# Altium footprint library eaton_elv10-xx-2p.PcbLib: 3 footprints
Each footprint in its own frame and in the unit in brackets; x right, y up, seen from the top. Pads: shape width x height; smd on the part's side, far side on the other; paste and mask are expansions set on the pad; w line width, h text height; cw(c..) or ccw(c..) is an arc to the next point about the centre after c.
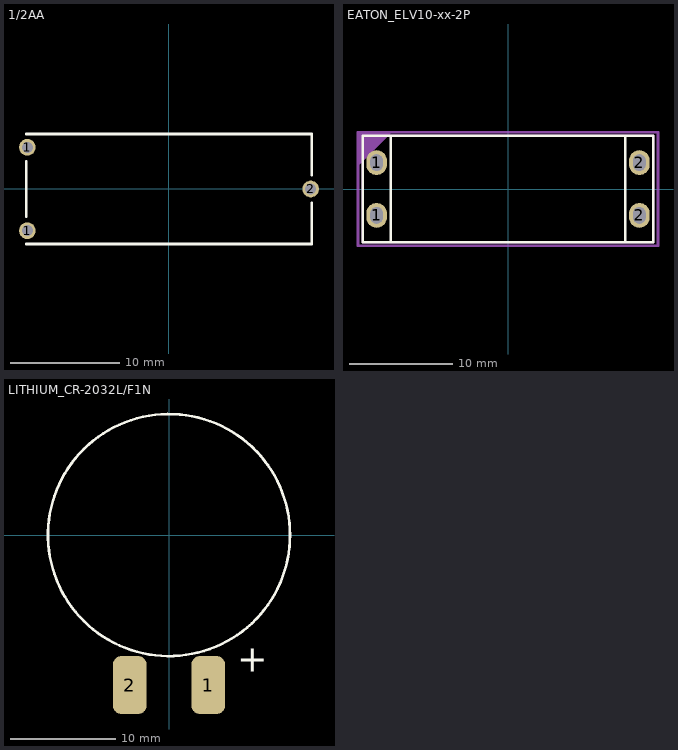
[diagram p0: the footprints below, top view; thin cyan lines are the x and y axes]

## 1/2AA [mm] "1/2AA TH BATTERY"
pads (3):
  round 1.524 hole 1: 1(-12.9,-3.8) 1(-12.9,3.8) 2(12.9,0)
Top Overlay:
  lines w0.254: -13,-5 13,-5 13,-1.25 ; -13,-2.5 -13,2.5 ; -13,5 13,5 13,1.25
3D body: height 8, standoff 0, extent -12.75,-4.75 12.75,4.75

## EATON_ELV10-xx-2P [mm]
height 14.1
pads (4):
  rrect100% 2x2.4 hole 1.2 slot 1.6 at 90 deg: 1(-12.7,-2.55) 1(-12.7,2.55) 2(12.7,-2.55) 2(12.7,2.55)
Top Overlay:
  lines w0.254: -11.35,-5.136 -11.35,5.15 ; -11.25,5.15 -14.05,5.15 ; 11.35,-5.136 11.35,5.15 ; -14.05,5.15 -14.05,-5.136 14.05,-5.136 14.05,5.15 -14.05,5.15
Top 3D Body:
  lines w0.254: -14.05,-5.136 -14.05,5.15 14.05,5.15 14.05,-5.136 -14.05,-5.136
Top Courtyard:
  region: -14.5,5.5 -11.25,5.5 -14.5,2.25
  lines w0.254: -14.5,-5.5 -14.5,5.5 14.5,5.5 14.5,-5.5 -14.5,-5.5
Top Designator (Mech17):
  text ".Designator" at -3.246,-0.488 h1.52
3D body "ELV10-xx-2P.step": height 14.11, standoff -3.68, extent -14.05,-5.136 14.05,5.15

## LITHIUM_CR-2032L/F1N [mm] "BATTERY LITHIUM COIN 3V W/TABS"
pads (2):
  rrect50% 3.2x5.5 smd: 1(3.725,-14.25) 2(-3.725,-14.25)
Top Overlay:
  circle w0.254: c0,0 r11.5
  text "+" at 6.5,-13 h2.54
3D body: height 4, standoff 0, extent -10.048,-9.98 9.873,9.98